# EAGLE library part PCAL6408A (library nxp_60)
Low-voltage translating, 8-bit I2C-bus/SMBus I/O expander with interrupt output, reset, and configuration registers The PCAL6408A is an 8-bit general purpose I/O expander that provides remote I/O expansion for most microcontroller families via the I2C-bus interface. AAL Eindhoven MK
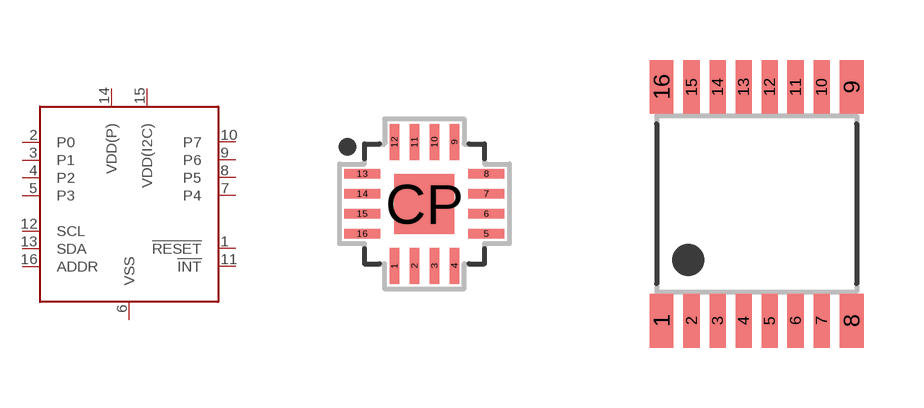
[diagram p127: symbol with the pads of SOT758-1; footprints SOT758-1, SOT403-1]

Designator prefix U

## PCAL6408ABS  [SOT758-1]
1  !RESET!  in
2  P0
3  P1
4  P2
5  P3
6  VSS
7  P4
8  P5
9  P6
10  P7
11  !INT!  out
12  SCL
13  SDA
14  VDD(P)  pwr
15  VDD(I2C)  pwr
16  ADDR  in

## PCAL6408APW  [SOT403-1]
1  VDD(I2C)  pwr
2  ADDR  in
3  !RESET!  in
4  P0
5  P1
6  P2
7  P3
8  VSS
9  P4
10  P5
11  P6
12  P7
13  !INT!  out
14  SCL
15  SDA
16  VDD(P)  pwr

## PCAL6408AHK  [SOT1161-1]
Pads as for SOT758-1

## Footprint SOT758-1 (pad centres in mm)
SOT758-1 HVQFN16: plastic thermal enhanced very thin quad flat package; no leads; 16 terminals; body 3 x 3 x 0.85 mm JEDEC: MO-220 IEC: -- JEITA: --
smd 0.24 x 0.9: 1 -0.75,-1.55; 2 -0.25,-1.55; 3 0.25,-1.55; 4 0.75,-1.55; 9 0.75,1.55; 10 0.25,1.55; 11 -0.25,1.55; 12 -0.75,1.55
smd 0.9 x 0.24: 5 1.55,-0.75; 6 1.55,-0.25; 7 1.55,0.25; 8 1.55,0.75; 13 -1.55,0.75; 14 -1.55,0.25; 15 -1.55,-0.25; 16 -1.55,-0.75
smd 1.5 x 1.5: CP 0,0

## Footprint SOT403-1 (pad centres in mm)
SOT403-1 TSSOP16: plastic thin shrink small outline package; 16 leads; body width 4.4 mm JEDEC: MO-153 IEC: ---
smd 0.6 x 1.35: 1 -2.375,-2.925; 8 2.375,-2.925; 9 2.375,2.925; 16 -2.375,2.925
smd 0.4 x 1.35: 2 -1.625,-2.925; 3 -0.975,-2.925; 4 -0.325,-2.925; 5 0.325,-2.925; 6 0.975,-2.925; 7 1.625,-2.925; 10 1.625,2.925; 11 0.975,2.925; 12 0.325,2.925; 13 -0.325,2.925; 14 -0.975,2.925; 15 -1.625,2.925

## Footprint SOT1161-1 (pad centres in mm)
SOT1161-1 XQFN16: plastic, extremely thin quad flat package; no leads;16 terminals; body 1.80 x 2.60 x 0.50 mm JEDEC: -- IEC: --
smd 0.65 x 0.22: 1 -0.725,0.6
smd 0.55 x 0.22: 2 -0.775,0.2; 3 -0.775,-0.2; 4 -0.775,-0.6; 9 0.775,-0.6; 10 0.775,-0.2; 11 0.775,0.2; 12 0.775,0.6
smd 0.22 x 0.55: 5 -0.6,-1.175; 6 -0.2,-1.175; 7 0.2,-1.175; 8 0.6,-1.175; 13 0.6,1.175; 14 0.2,1.175; 15 -0.2,1.175; 16 -0.6,1.175